# EAGLE library part MAX6956 (library maxim-5)
LED driver with 28 current sources and I2C interface
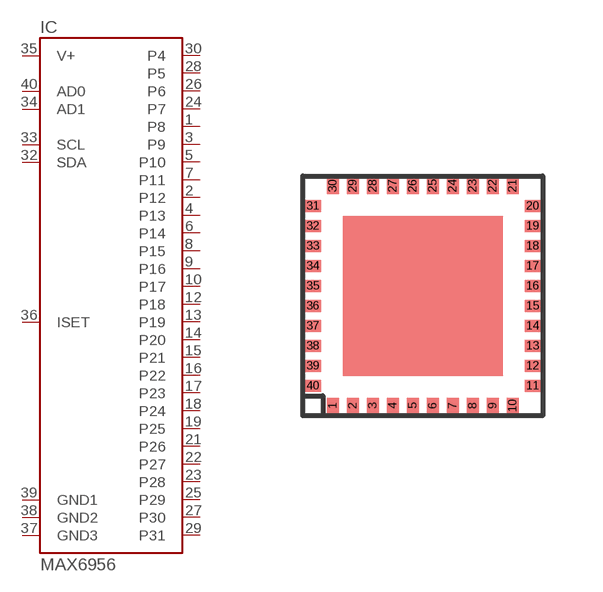
[diagram p393: symbol with the pads of QFN40; footprint QFN40]

Designator prefix IC

## MAX6956  [QFN40]
1  P8  oc
2  P12  oc
3  P9  oc
4  P13  oc
5  P10  oc
6  P14  oc
7  P11  oc
8  P15  oc
9  P16  oc
10  P17  oc
12  P18  oc
13  P19  oc
14  P20  oc
15  P21  oc
16  P22  oc
17  P23  oc
18  P24  oc
19  P25  oc
21  P26  oc
22  P27  oc
23  P28  oc
24  P7  oc
25  P29  oc
26  P6  oc
27  P30  oc
28  P5  oc
29  P31  oc
30  P4  oc
32  SDA
33  SCL  in
34  AD1  in
35  V+  pwr
36  ISET  pas
37  GND3  pwr
38  GND2  pwr
39  GND1  pwr
40  AD0  in

## Footprint QFN40 (pad centres in mm)
smd 0.3 x 0.4: 1 -2.25,-2.75; 2 -1.75,-2.75; 3 -1.25,-2.75; 4 -0.75,-2.75; 5 -0.25,-2.75; 6 0.25,-2.75; 7 0.75,-2.75; 8 1.25,-2.75; 9 1.75,-2.75; 10 2.25,-2.75; 21 2.25,2.75; 22 1.75,2.75; 23 1.25,2.75; 24 0.75,2.75; 25 0.25,2.75; 26 -0.25,2.75; 27 -0.75,2.75; 28 -1.25,2.75; 29 -1.75,2.75; 30 -2.25,2.75
smd 0.4 x 0.3: 11 2.75,-2.25; 12 2.75,-1.75; 13 2.75,-1.25; 14 2.75,-0.75; 15 2.75,-0.25; 16 2.75,0.25; 17 2.75,0.75; 18 2.75,1.25; 19 2.75,1.75; 20 2.75,2.25; 31 -2.75,2.25; 32 -2.75,1.75; 33 -2.75,1.25; 34 -2.75,0.75; 35 -2.75,0.25; 36 -2.75,-0.25; 37 -2.75,-0.75; 38 -2.75,-1.25; 39 -2.75,-1.75; 40 -2.75,-2.25